# Altium footprint library KCD1-101.PcbLib: 1 footprints
Each footprint in its own frame and in the unit in brackets; x right, y up, seen from the top. Pads: shape width x height; smd on the part's side, far side on the other; paste and mask are expansions set on the pad; w line width, h text height; cw(c..) or ccw(c..) is an arc to the next point about the centre after c.
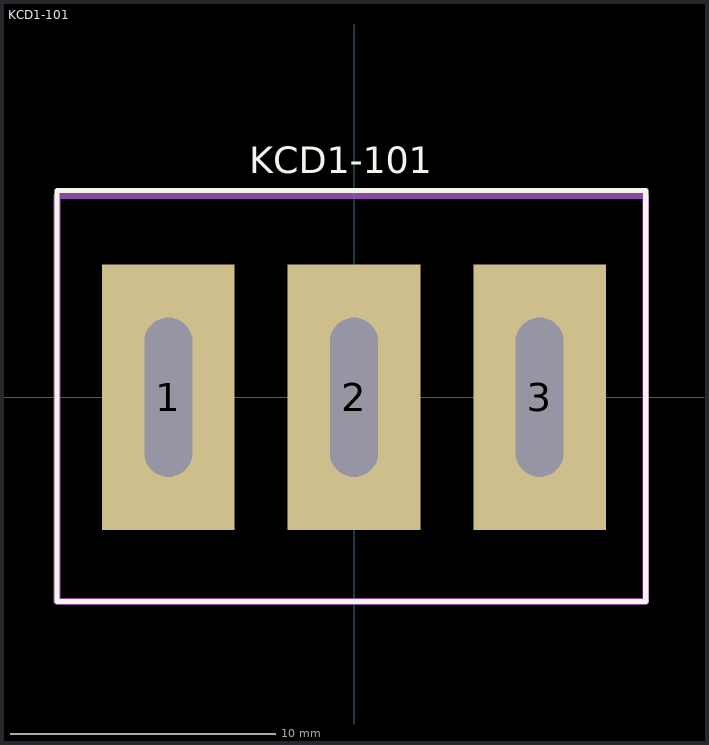
[diagram p0: the footprint, top view; thin cyan lines are the x and y axes]

## KCD1-101 [mm]
height 0.55
pads (3):
  rect 5x10 / inner rect 5x5 / far side rect 5x10 hole 1.8 slot 6 at 90 deg: 1(-7,0) 2(0,0) 3(7,0)
Top Overlay:
  lines w0.2: -11.2,-7.7 -11.2,7.8 11,7.8 11,-7.7 -11.2,-7.7
  text "KCD1-101" at -3.946,8.454 h1
Top Assembly:
  lines w0.254: -11.2,-7.7 11,-7.7 11,7.6 -11.2,7.6 -11.2,-7.7
  text "'.Designator'" at -0.975,-0.35 h0.7
3D body "KCD1-B2-3P-On.step": height 20.48, standoff -6, extent -10.7,-7.5 10.7,7.5